# Altium footprint library Microcontroller circuit.PcbLib: 17 footprints (part 1 of 2)
Each footprint in its own frame and in the unit in brackets; x right, y up, seen from the top. Pads: shape width x height; smd on the part's side, far side on the other; paste and mask are expansions set on the pad; w line width, h text height; cw(c..) or ccw(c..) is an arc to the next point about the centre after c.
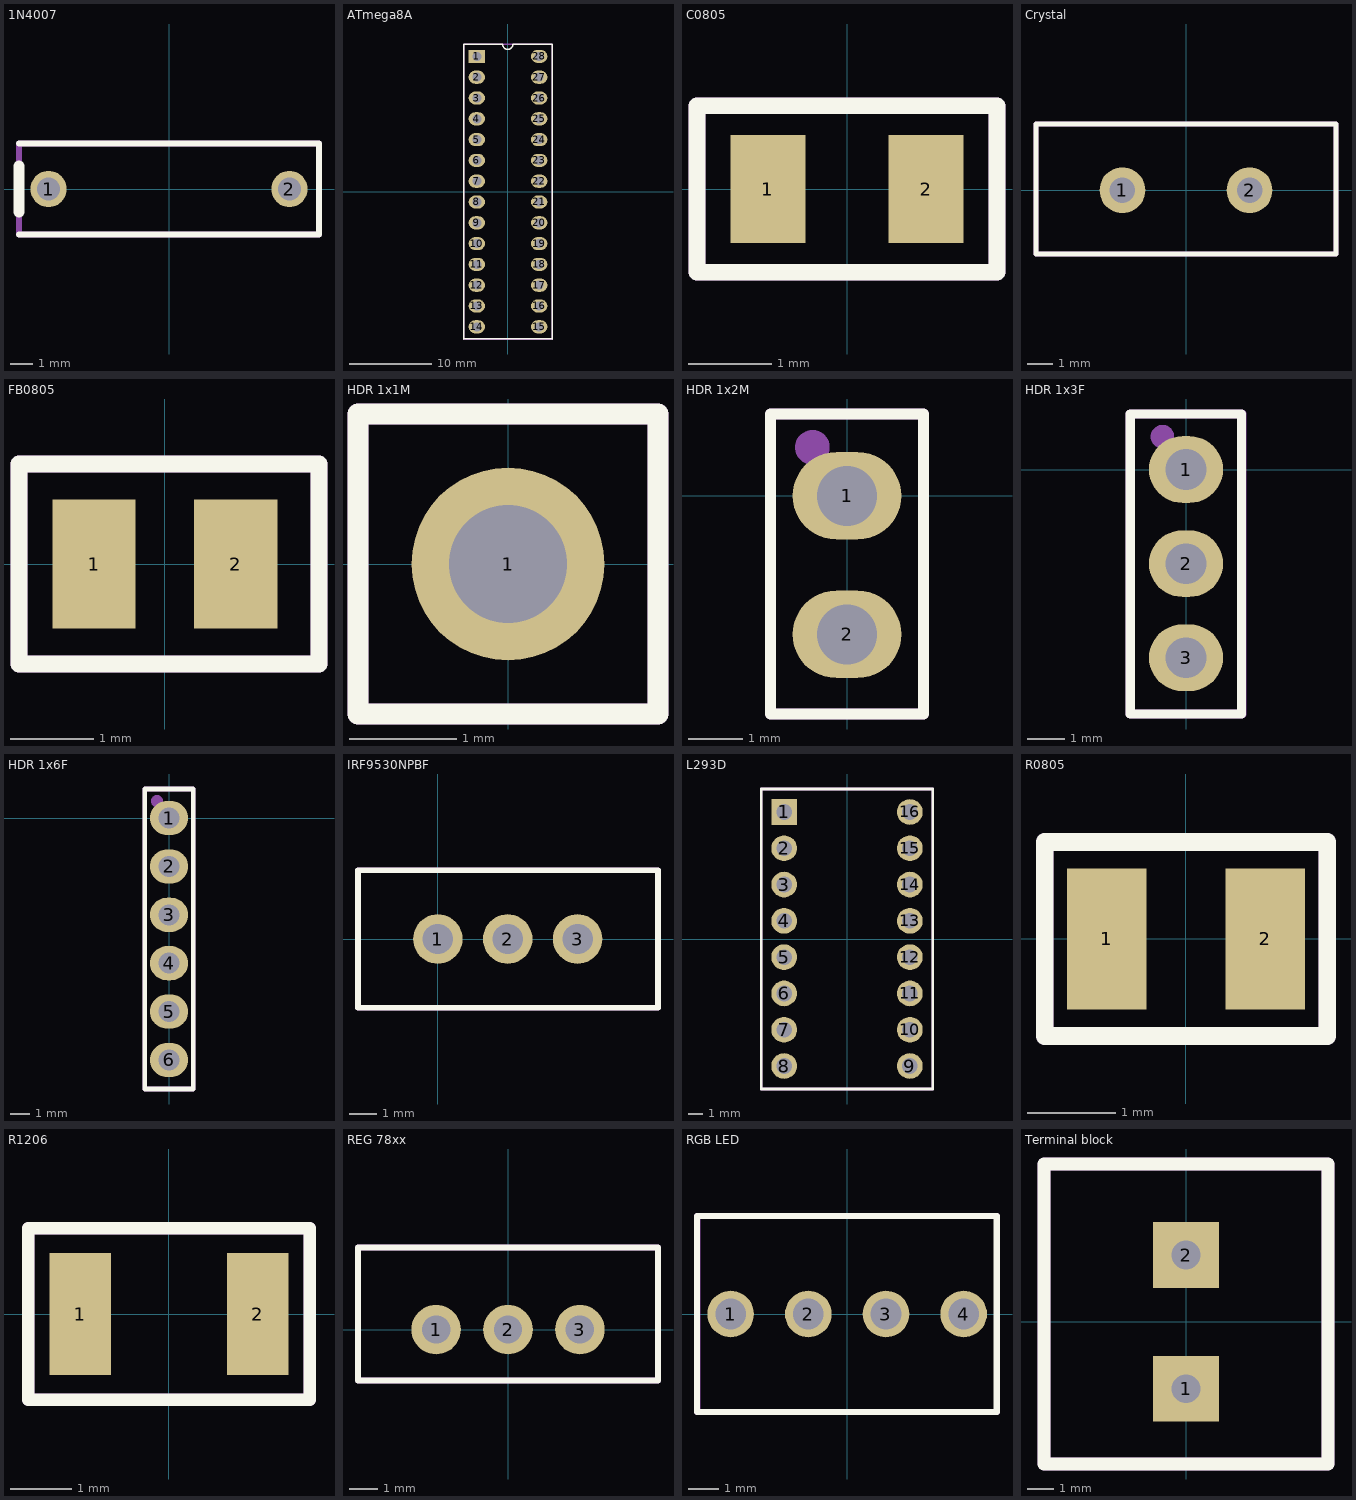
[diagram p0: the footprints below, top view; thin cyan lines are the x and y axes]

## 1N4007 [mm] "DIODE GEN PURP 1A DO204AL"
pads (2):
  round 1.6 hole 1: 1(-5.3,0) 2(5.3,0)
Top Overlay:
  lines w0.25: -6.6,-2 6.6,-2 6.6,2 -6.6,2
  lines w0.5: -6.6,-1 -6.6,1
Assembly Notes:
  lines w0.25: -6.6,-2 -6.6,2 6.6,2 6.6,-2 -6.6,-2
  text ".Designator" at -1.8,-0.6 h1.52
3D body "1N4007G.STEP": height 2.8, standoff -15.3, extent -5.65,-1.4 5.65,1.4

## ATmega8A [mm] "IC MCU 8BIT 8KB FLASH 28DIP"
pads (28):
  rect 2x1.6 hole 1.1: 1(-3.81,16.51)
  oval 2x1.6 hole 1.1: 2(-3.81,13.97) 3(-3.81,11.43) 4(-3.81,8.89) 5(-3.81,6.35) 6(-3.81,3.81) 7(-3.81,1.27) 8(-3.81,-1.27) 9(-3.81,-3.81) 10(-3.81,-6.35) 11(-3.81,-8.89) 12(-3.81,-11.43) 13(-3.81,-13.97) 14(-3.81,-16.51) 15(3.81,-16.51) 16(3.81,-13.97) 17(3.81,-11.43) 18(3.81,-8.89) 19(3.81,-6.35) 20(3.81,-3.81) 21(3.81,-1.27) 22(3.81,1.27) 23(3.81,3.81) 24(3.81,6.35) 25(3.81,8.89) 26(3.81,11.43) 27(3.81,13.97) 28(3.81,16.51)
Top Overlay:
  lines w0.2: -5.4,-18 -5.4,18 -0.855,18 -0.67,18 ccw(c-0.035,18) 0.6,18 0.855,18 5.4,18 5.4,-18 ; -5.4,-17.98 5.4,-17.98
Assembly Notes:
  circle w0.5: c-3.8,16.5 r0.2
  lines w0.2: -5.4,-18 -5.4,18 5.4,18 5.4,-18 -5.4,-18
  text ".Designator" at 0.7,-4.4 h2
3D body "ATMEGA328P-PU--3DModel-STEP-56544.STEP": height 4.57, standoff -3.43, extent -3.95,-17.335 3.95,17.336

## C0805 [mm] "0.1uF"
pads (2):
  rect 0.9x1.3 smd: 1(-0.95,0) 2(0.95,0)
Top Overlay:
  lines w0.2: -1.8,-1 -1.8,1 1.8,1 1.8,-1 -1.8,-1
Assembly Notes:
  lines w0.2: -1.8,-1 -1.8,1 1.8,1 1.8,-1 -1.8,-1
  text ".Designator" at -0.9,-0.3 h0.8
3D body "C2012X7R1H104K085AA.STEP": height 1, standoff 0, extent -1,-0.625 1,0.625

## Crystal [mm] "CRYSTAL 4.0000MHZ 20PF TH"
pads (2):
  round 1.8 hole 1: 1(-2.5,0) 2(2.5,0)
Top Overlay:
  lines w0.2: -5.9,-2.5 5.9,-2.5 5.9,2.6 -5.9,2.6 -5.9,-2.5
Assembly Notes:
  lines w0.2: -5.9,-2.5 5.9,-2.5 5.9,2.6 -5.9,2.6 -5.9,-2.5
  text ".Designator" at -1.5,-0.6 h1.7
3D body "ECS-040-20-4X-DU (1).STEP": height 4, standoff -12.2, extent -5.675,-2.3 5.675,2.35

## FB0805 [mm]
pads (2):
  rect 1x1.55 smd: 1(-0.85,0) 2(0.85,0)
Top Overlay:
  lines w0.2: 1.85,-1.2 1.85,1.2 ; 1.85,-1.2 -1.75,-1.2 -1.75,1.2 1.85,1.2 ; 1.85,-1.2 1.85,1.2
Assembly Notes:
  lines w0.2: -1.75,-1.2 -1.75,1.2 1.85,1.2 1.85,-1.2 -1.75,-1.2
  text ".Designator" at -1.25,-0.5 h1
3D body "BKP2125HS101-T.STEP": height 1.22, standoff -0.03, extent -1,-0.6 1,0.45

## HDR 1x1M [mm]
pads (1):
  round 1.8 hole 1.1: 1(0,0)
Top Overlay:
  lines w0.2: -1.4,-1.4 -1.4,1.4 1.4,1.4 1.4,-1.4 -1.4,-1.4
Assembly Notes:
  lines w0.2: -1.4,-1.4 1.4,-1.4 1.4,1.4 -1.4,1.4 -1.4,-1.4
  text ".Designator" at -0.9,-0.5 h1
3D body "PH1-01-UA.STEP": height 7.25, standoff -4.3, extent -1.27,-1.25 1.277,1.25

## HDR 1x2M [mm] "CONN HEADER VERT 2POS 2.54MM"
pads (2):
  oval 2x1.6 hole 1.1: 1(0,0) 2(0,-2.54)
Top Overlay:
  lines w0.2: -1.4,-4 1.4,-4 1.4,1.5 -1.4,1.5 -1.4,-4
Assembly Notes:
  circle w0.381: c-0.635,0.889 r0.127
  lines w0.2: -1.4,-4 1.4,-4 1.4,1.5 -1.4,1.5 -1.4,-4
  text ".Designator" at 0.6,-2.7 h1.52
3D body "68000-202HLF--3DModel-STEP-533217.STEP": height 8.18, standoff -2.62, extent -1.207,-3.81 1.207,1.27

## HDR 1x3F [mm]
pads (3):
  oval 2x1.8 hole 1.1: 1(0,0) 2(0,-2.54) 3(0,-5.08)
Top Overlay:
  lines w0.25: -1.5,-6.6 1.5,-6.6 1.5,1.5 ; -1.5,1.5 1.476,1.5
  lines w0.254: -1.5,-6.6 -1.5,1.5
Assembly Notes:
  circle w0.381: c-0.635,0.889 r0.127
  lines w0.254: -1.5,-6.6 1.5,-6.6 1.5,1.5 -1.5,1.5 -1.5,-6.6
  text ".Designator" at 0.4,-4.78 h1
3D body "Female Pin Header 01x03 Pitch 2.54mm Height 8.5mm.stp": height 8.5, standoff -3.2, extent -1.27,-6.35 1.27,1.27

## HDR 1x6F [mm] "6 Position Receptacle Connector 0.100\" (2.54mm) Through Hole Tin"
pads (6):
  oval 2x1.8 hole 1.1: 1(0,0) 2(0,-2.54) 3(0,-5.08) 4(0,-7.62) 5(0,-10.16) 6(0,-12.7)
Top Overlay:
  lines w0.25: -1.27,1.397 -1.27,1.524 -1.143,1.524 0,1.524 1.27,1.524
  lines w0.254: -1.27,1.46 -1.27,-14.224 1.143,-14.224 1.27,-14.224 1.27,-14.097 1.27,1.524
Assembly Notes:
  circle w0.381: c-0.635,0.889 r0.127
  lines w0.254: 1.27,1.45 1.27,-14.224 -1.27,-14.224 -1.27,1.524 1.27,1.524
  text ".Designator" at 0.4,-9.9 h1
3D body "m20-7820646_asm.stp": height 8.51, standoff -2.99, extent -1.25,-14.17 1.25,1.47

## IRF9530NPBF [mm] "MOSFET P-CH 100V 14A TO220AB"
pads (3):
  round 1.8 hole 1.1: 1(0,0) 2(2.54,0) 3(5.08,0)
Top Overlay:
  lines w0.2: -2.9,-2.5 -2.9,2.5 8,2.5 8,-2.5 -2.9,-2.5
Assembly Notes:
  lines w0.2: -2.9,-2.5 -2.9,2.5 8,2.5 8,-2.5 -2.9,-2.5
  text ".Designator" at -0.5,-0.7 h1.7
3D body "TO-220AB_LTO.step": height 15.75, standoff -6.3, extent -2.731,-2.35 7.811,2.35

## L293D [mm]
pads (16):
  rect 1.8x1.8 hole 1.1: 1(-4.4,8.89)
  round 1.8 hole 1.1: 2(-4.4,6.35) 3(-4.4,3.81) 4(-4.4,1.27) 5(-4.4,-1.27) 6(-4.4,-3.81) 7(-4.4,-6.35) 8(-4.4,-8.89) 9(4.4,-8.89) 10(4.4,-6.35) 11(4.4,-3.81) 12(4.4,-1.27) 13(4.4,1.27) 14(4.4,3.81) 15(4.4,6.35) 16(4.4,8.89)
Top Overlay:
  lines w0.2: -6,-10.5 6,-10.5 6,10.5 -6,10.5 -6,-10.5
Assembly Notes:
  lines w0.2: -6,-10.5 6,-10.5 6,10.5 -6,10.5 -6,-10.5
  text ".Designator" at 0.5,-4 h2
3D body "L293D--3DModel-STEP-56544 (2).STEP": height 5.1, standoff -3.3, extent -4.62,-10 4.621,10

## R0805 [mm]
pads (2):
  rect 0.9x1.6 smd: 1(-0.9,0) 2(0.9,0)
Top Overlay:
  lines w0.2: -1.6,-1.1 1.6,-1.1 1.6,1.1 -1.6,1.1 -1.6,-1.1
Assembly Notes:
  lines w0.2: -1.6,-1.1 1.6,-1.1 1.6,1.1 -1.6,1.1 -1.6,-1.1
  text ".Designator" at -1.2,-0.5 h1.25
3D body "RC0805FR-07330RL.STEP": height 0.6, standoff 0, extent -1,-0.625 1,0.625

## R1206 [mm]
pads (2):
  rect 1x2 smd: 1(-1.45,0) 2(1.45,0)
Top Overlay:
  lines w0.2: -2.3,-1.4 -2.3,1.4 2.3,1.4 2.3,-1.4 -2.3,-1.4
Assembly Notes:
  lines w0.2: -2.3,-1.4 -2.3,1.4 2.3,1.4 2.3,-1.4 -2.3,-1.4
  text ".Designator" at -1.1,-0.6 h1.25
3D body "RC1206FR-0710KL.STEP": height 0.65, standoff 0, extent -1.55,-0.8 1.55,0.8

## REG 78xx [mm]
pads (3):
  round 1.75 hole 1: 1(-2.54,0) 2(0,0) 3(2.54,0)
Top Overlay:
  lines w0.2: -5.3,-1.8 5.3,-1.8 5.3,2.9 -5.3,2.9 -5.3,-1.8
Assembly Notes:
  lines w0.2: -5.3,-1.8 -5.3,2.9 5.3,2.9 5.3,-1.8 -5.3,-1.8
  text ".Designator" at -2.1,-0.1 h1.6
3D body "NOPB (1).STEP": height 22.86, standoff -8.38, extent -5.08,-1.485 5.08,2.71

## RGB LED [mil]
pads (4):
  round 60 hole 39.37: 1(-150,0) 2(-50,0) 3(50,0) 4(150,0)
Top Overlay:
  lines w7.87: -193.31,-125.98 192.52,-125.98 192.52,125.98 -193.31,125.98 -193.31,-125.98
Assembly Notes:
  lines w7.87: -192.91,-125.98 -192.91,125.98 192.91,125.98 192.91,-125.98 -192.91,-125.98
  text ".Designator" at -94.49,-27.56 h70.87
3D body "QBL8RGB.step": height 458.66, standoff -944.88, extent -111.62,-115.15 101.96,115.16

## Terminal block [mm] "102-6179-ND"
pads (2):
  rect 2.5x2.5 hole 1.1 square: 1(0,-2.54) 2(0,2.54)
Top Overlay:
  lines w0.5: -5.4,-5.4 5.4,-5.4 5.4,6 -5.4,6 -5.4,-5.4
Assembly Notes:
  lines w0.5: -5.4,-5.4 5.4,-5.4 5.4,6 -5.4,6 -5.4,-5.4
  text ".Designator" at 0.5,-3.2 h1.5
3D body "CUI_DEVICES_TB004-508-02BE.step": height 14.1, standoff -3.5, extent -5.1,-5.08 5.1,5.68